# Altium schematic symbol library Schlib1.SchLib: 9 symbols
Pins are listed as number, name and electrical type; pins without a type are passive.

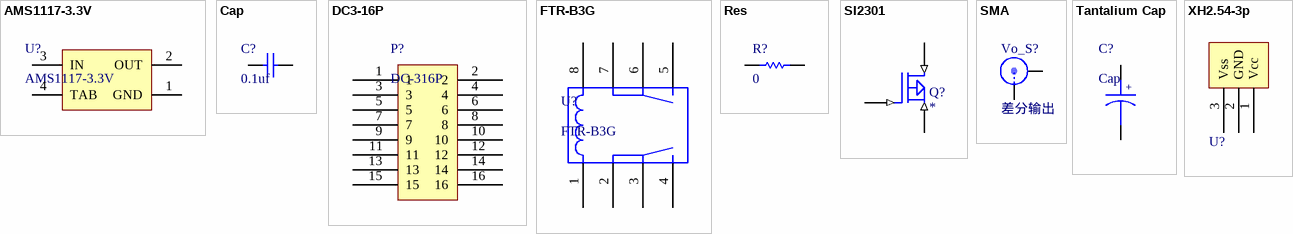
[diagram p0: symbols AMS1117-3.3V to XH2.54-3p]

## AMS1117-3.3V
designator U?
footprint SOT-223
pins: 1 GND (power), 2 OUT (power), 3 IN (power), 4 TAB (power)

## Cap
designator C?, comment 0.1uf
footprint 0603C
pins: 1, 2

## DC3-16P
designator P?, comment DC-316P
footprint DC3-14P
pins: 1, 2, 3, 4, 5, 6, 7, 8, 9, 10, 11, 12, 13, 14, 15, 16

## FTR-B3G
designator U?
footprint FTR-B3G
pins: 1, 2, 3, 4, 5, 6, 7, 8

## Res
designator R?, comment 0
footprint 0603R
pins: 1, 2

## SI2301
designator Q?
footprint SOT-23
pins: 1 G (in), 2 S (in), 3 D (in)

## SMA
designator Vo_S?, comment 差分输出
footprint SMA-LYING
footprint SMA-STAND
pins: 0, 1

## Tantalium Cap
designator C?, comment Cap
footprint 7343-31 TYPE D
footprint 3216C-TYPE_A
pins: 1, 2
text: +

## XH2.54-3p
designator U?  (value not drawn)
footprint XH2.54-3p
pins: 1 Vcc, 2 GND, 3 Vss